# EAGLE library part IC_LT3972 (library 0kaz)
33V, 3.5A, 2.4MHz Step-Down Switching Regulator with 75uA Quiescent Current
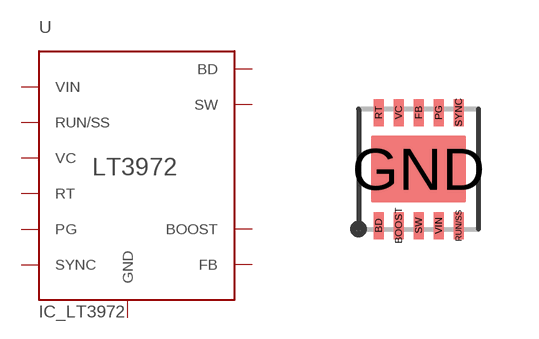
[diagram p1: symbol with the pads of DFN-10; footprint DFN-10]

Designator prefix -

## IC_LT3972  [DFN-10]
BD  BD
BOOST  BOOST
FB  FB
GND  GND
PG  PG
RT  RT
RUN/SS  RUN/SS
SW  SW
SYNC  SYNC
VC  VC
VIN  VIN

## Footprint DFN-10 (pad centres in mm)
10-Lead Plastic DFN (3mm x 3mm)
smd 0.25 x 0.675: BD -1,-1.413; BOOST -0.5,-1.413; FB 0,1.413; PG 0.5,1.413; RT -1,1.413; RUN/SS 1,-1.413; SW 0,-1.413; SYNC 1,1.413; VC -0.5,1.413; VIN 0.5,-1.413
smd 2.38 x 1.65: GND 0,0